# Altium schematic symbol library UM6K34N.SchLib: 1 symbol
Pins are listed as number, name and electrical type; pins without a type are passive.

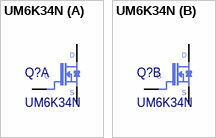
[diagram p0: symbol UM6K34N]

## UM6K34N
designator Q?
part A pins: 1 S1, 2 G1, 6 D1
part B pins: 3 D2, 4 S2, 5 G2
part A text: D; G; S
part B text: D; G; S